# EAGLE library part TEN5 (library traco_ten)
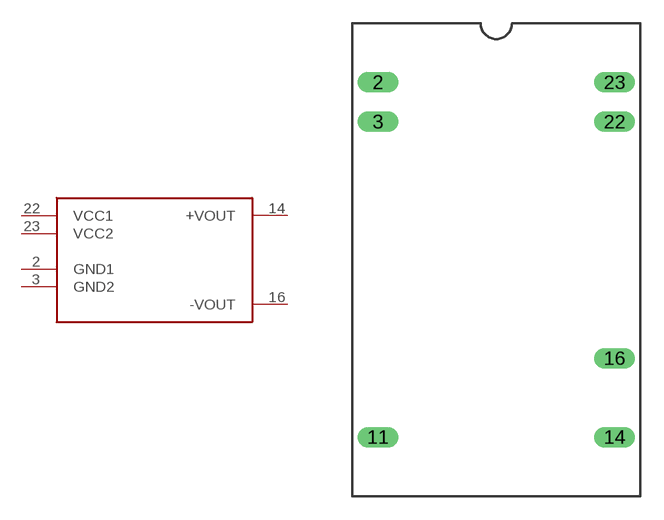
[diagram p0: symbol with the pads of TEN5; footprint TEN5]

Designator prefix -

## TEN5  [TEN5]
2  GND1  sup
3  GND2  sup
14  +VOUT  out
16  -VOUT  out
22  VCC1  sup
23  VCC2  sup

## Footprint TEN5 (pad centres in mm)
drill 0.813 long: 2 -7.62,11.43; 3 -7.62,8.89; 11 -7.62,-11.43; 14 7.62,-11.43; 16 7.62,-6.35; 22 7.62,8.89; 23 7.62,11.43